# Altium footprint library PCB - POTENTIOMETER - POT BOURNS TRIMPOT 3214X.PCBLIB: 1 footprints
Each footprint in its own frame and in the unit in brackets; x right, y up, seen from the top. Pads: shape width x height; smd on the part's side, far side on the other; paste and mask are expansions set on the pad; w line width, h text height; cw(c..) or ccw(c..) is an arc to the next point about the centre after c.
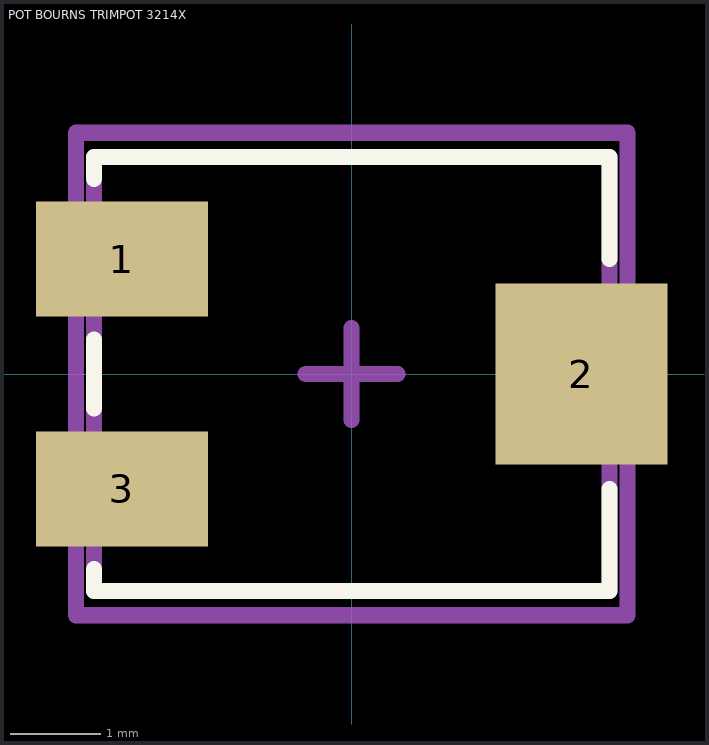
[diagram p0: the footprint, top view; thin cyan lines are the x and y axes]

## POT BOURNS TRIMPOT 3214X [mil]
pads (3):
  rect 75x50 smd: 1(-100,50) 3(-100,-50)
  rect 75x79 smd: 2(100,0)
Top Overlay:
  lines w7: -112.2,-85 -112.2,-94.5 112.21,-94.5 112.21,-50 ; -112.2,-14.99 -112.2,15.01 ; -112.2,85 -112.2,94.5 112.21,94.5 112.21,50
Top Assembly:
  lines w7: -112.2,-94.48 112.21,-94.48 112.21,94.5 -112.2,94.5 -112.2,-94.48
Top Courtyard:
  lines w7: -20,0 20,0 ; 0,-20 0,20 ; -120,-105 120,-105 120,105 -120,105 -120,-105
3D body "Bourns 3214X.step": height 208.66, standoff 0, extent -112.2,-94.48 112.21,94.5